# Altium schematic symbol library HFPB_01-SchLib.SchLib: 68 symbols (part 2 of 2)
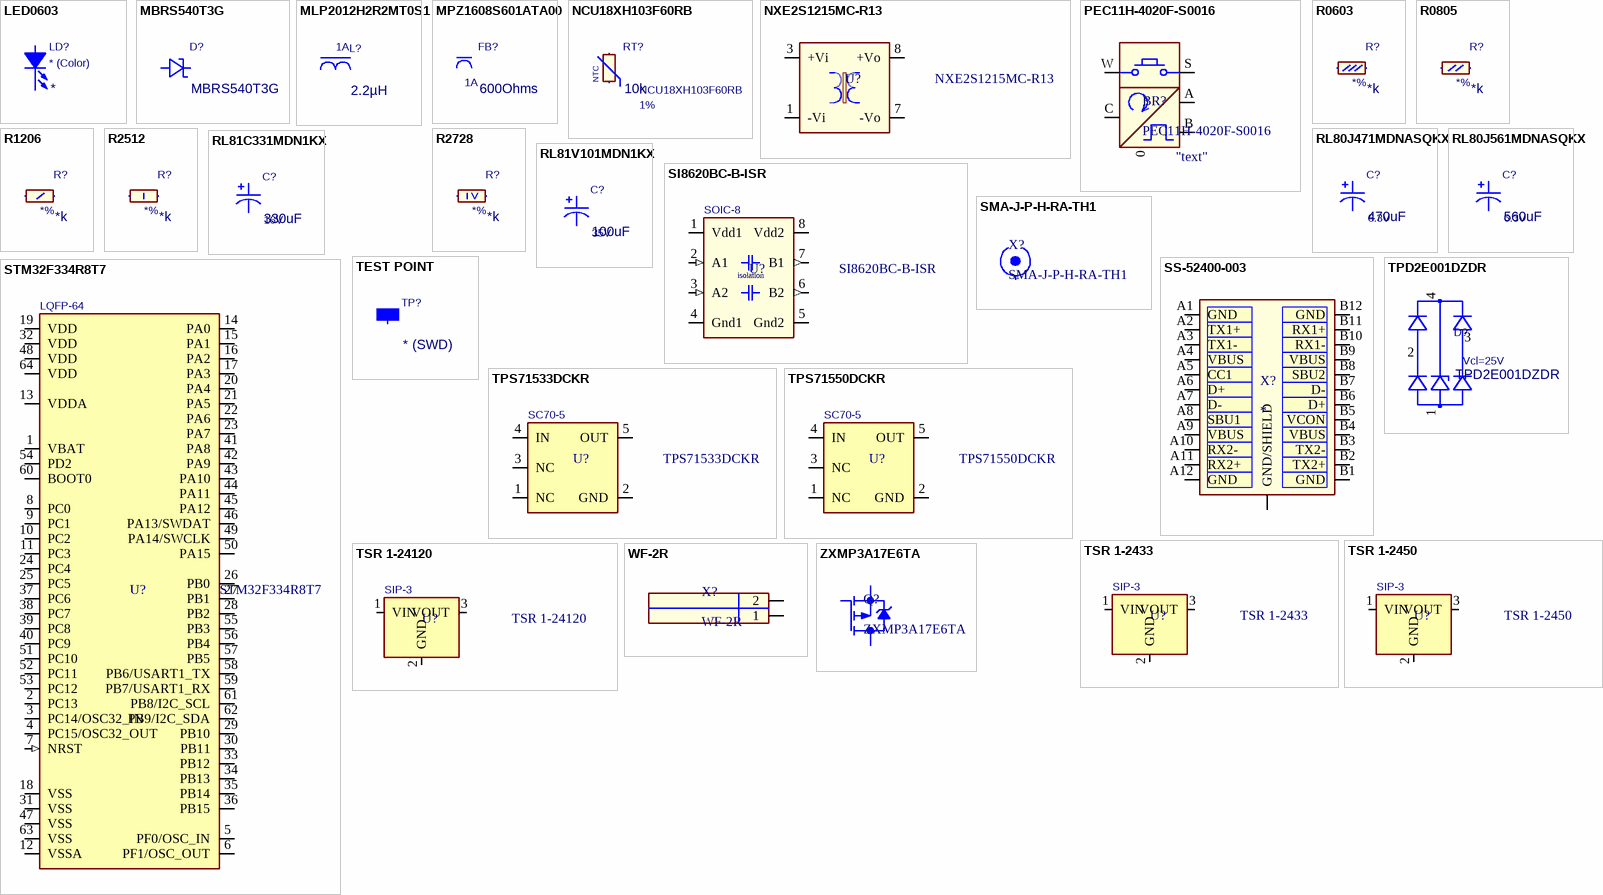
[diagram p2: symbols LED0603 to ZXMP3A17E6TA]

## TSR 1-2433
designator U?  Package/Case: SIP-3
DC/DC Conv., Non-Iso, 3.3V, 1A; Manufacturer: Traco Power; CompType: DC/DC Converters; Alternative: *; Comment for circuit: *; Datasheet link: https://www.tracopower.com/sites/default/files/products/datasheets/tsr1_datasheet.pdf; Digikey link: https://www.digikey.com/en/products/detail/traco-power/TSR-1-2433/9383776; Digikey number: 1951-2742-ND; Mouser link: https://ru.mouser.com/ProductDetail/TRACO-Power/TSR-1-2433?qs=ckJk83FOD0Wr1ojFRJK1OQ%3D%3D; Mouser number: 495-TSR-1-2433; Part Description: DC/DC Conv., Non-Iso, 3.3V, 1A; Part number: TSR 1-2433; Price per 1p (1), $: 5.5; Price per 1p (1000), $: 4.1
footprint SIP800W50P254L1220H1010Q3 (SIP, 2.54 mm pitch; 3 pin, 12.20 mm L X 8.00 mm W X 10.10 mm H body)
pins: 1 VIN (power), 2 GND (power), 3 VOUT (power)

## TSR 1-2450
designator U?  Package/Case: SIP-3
DC/DC Conv., Non-Iso, 5.0V, 1A; Manufacturer: Traco Power; CompType: DC/DC Converters; Alternative: *; Comment for circuit: *; Datasheet link: https://www.tracopower.com/sites/default/files/products/datasheets/tsr1_datasheet.pdf; Digikey link: https://www.digikey.com/en/products/detail/traco-power/TSR-1-2450/9383780; Digikey number: 1951-2747-ND; Mouser link: https://eu.mouser.com/ProductDetail/TRACO-Power/TSR-1-2450?qs=ckJk83FOD0XFKqda0Mzkgw%3D%3D; Mouser number: 495-TSR-1-2450; Part Description: DC/DC Conv., Non-Iso, 5.0V, 1A; Part number: TSR 1-2450; Price per 1p (1), $: 5.5; Price per 1p (1000), $: 4.1
footprint SIP800W50P254L1220H1010Q3 (SIP, 2.54 mm pitch; 3 pin, 12.20 mm L X 8.00 mm W X 10.10 mm H body)
pins: 1 VIN (power), 2 GND (power), 3 VOUT (power)

## TSR 1-24120
designator U?  Package/Case: SIP-3
DC/DC Conv., Non-Iso, 12V, 1A; Manufacturer: Traco Power; CompType: DC/DC Converters; Alternative: *; Comment for circuit: *; Datasheet link: https://www.tracopower.com/sites/default/files/products/datasheets/tsr1_datasheet.pdf; Digikey link: https://www.digikey.com/en/products/detail/traco-power/TSR-1-24120/9383773; Digikey number: 1951-2739-ND; Mouser link: https://ru.mouser.com/ProductDetail/TRACO-Power/TSR-1-24120?qs=ckJk83FOD0XFyuKFnkiJHw%3D%3D; Mouser number: 495-TSR-1-24120; Part Description: DC/DC Conv., Non-Iso, 12V, 1A; Part number: TSR 1-24120; Price per 1p (1), $: 5.5; Price per 1p (1000), $: 4.1
footprint SIP800W50P254L1220H1010Q3 (SIP, 2.54 mm pitch; 3 pin, 12.20 mm L X 8.00 mm W X 10.10 mm H body)
pins: 1 VIN (power), 2 GND (power), 3 VOUT (power)

## WF-2R
designator X?
Connector 2 pin, Right angle, 2.54mm; Manufacturer: Connfly; Text: "text"; CompType: Connector; Alternative: *; Comment for circuit: *; Digikey link: -; Digikey number: -; Mouser link: -; Mouser number: -; Package/Case: Through Hole; Part Description: Connector 2 pin, Right angle, 2.54mm; Part number: WF-2R; Price per 1p (1), $: 0.15; Price per 1p (1000), $: 0.05
footprint WF-02MR (Male  Pitch=2.54mm)
pins: 1, 2

## ZXMP3A17E6TA
designator Q?
Transistor P-channel MOSFET, 30V, 3.2A; Manufacturer: Diodes Inc.; CompType: Transistor; Part number: ZXMP3A17E6TA; Price per 1p (1), $: 0.72; Price per 1p (1000), $: 0.30; Package/Case: SOT23-6; Alternative: *; Comment for circuit: *; Datasheet link: https://www.diodes.com/assets/Datasheets/ZXMP3A17E6.pdf; Digikey link: https://www.digikey.com/en/products/detail/diodes-incorporated/ZXMP3A17E6TA/504792; Mouser link: https://eu.mouser.com/ProductDetail/Diodes-Incorporated/ZXMP3A17E6TA?qs=%2Fha2pyFadugh%252BOLp36a8YmRnbWJ6fgVzZUpuYlSM%252BToeID8gy4rXbA%3D%3D; Mouser number: 522-ZXMP3A17E6TA; Part Description: Transistor P-channel MOSFET, 30V, 3.2A; Digikey number: 31-ZXMP3A17E6TACT-ND
footprint SOT23-6P95_285X130L45X42N (Small Outline Transistor (SOT23), 0.95 mm pitch; 6 pin, 3.00 mm L X 1.60 mm W X 1.30 mm H body)
pins: 1 D, 2 D, 3 G, 4 S, 5 D, 6 D